# Altium integrated library Renesas Transistor.IntLib: 835 symbols (part 7 of 18)
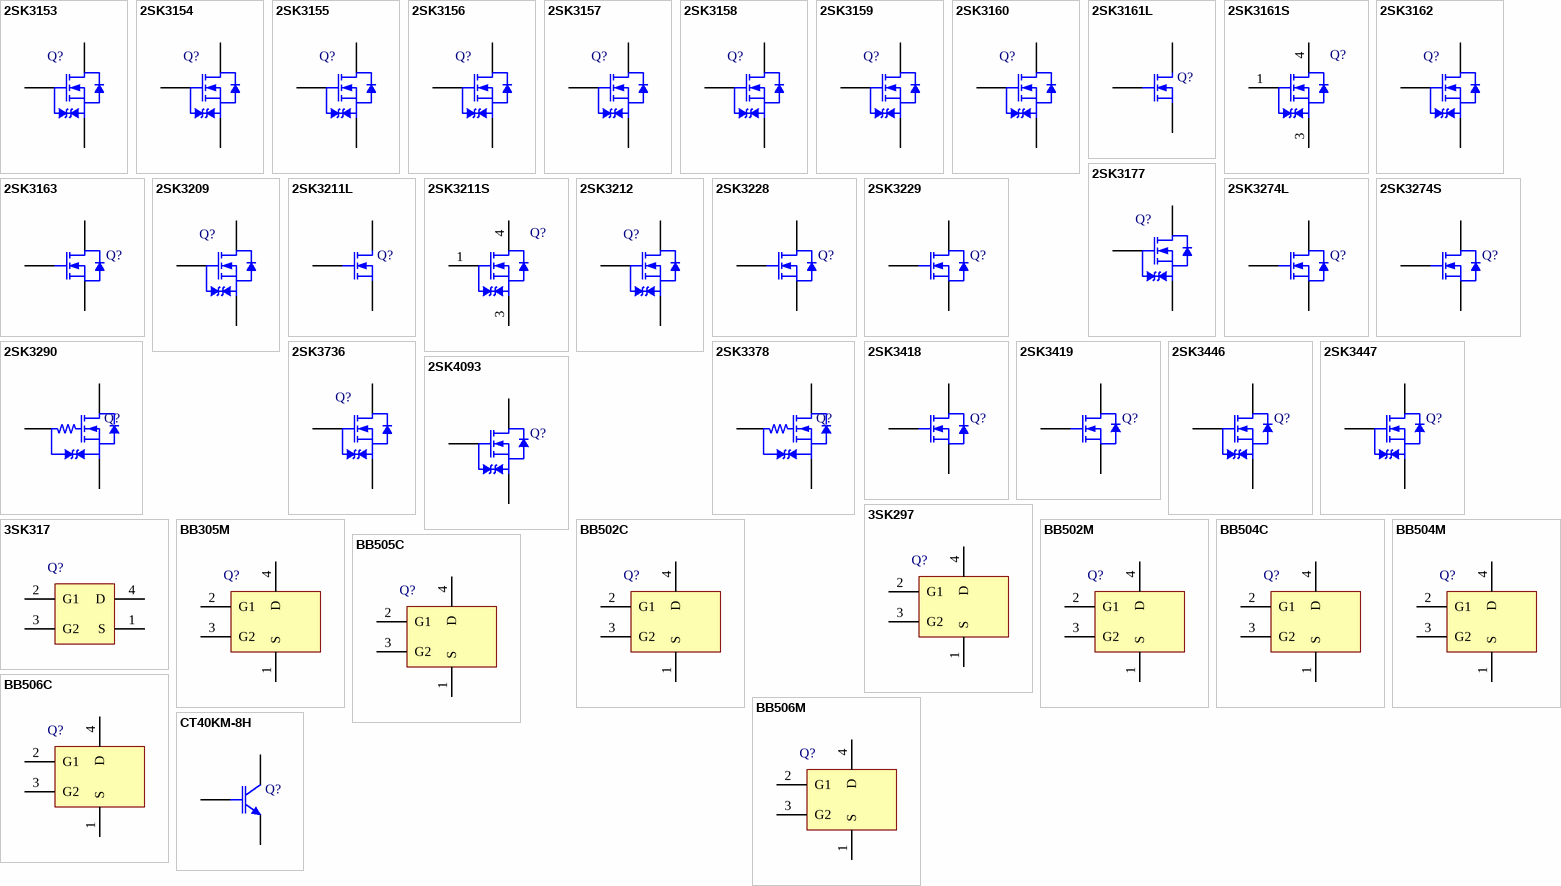
[diagram p28: symbols 2SK3153 to CT40KM-8H]

## 2SK3418
designator Q?
Silicon N-Channel MOSFET, High Speed Power Switching; Published: 30-Oct-2009; DatasheetVersion: Rev.2.00, Sep-2004; PackageVersion: Sep-2005; PackageReference: PRSS0004AC-A; Publisher: Altium Limited; PackageDescription: TO, Thru-Hole, Vertical, Heatsink Mounted; 3 In-Line Leads; Pitch 2.54 mm (TO-220AB); Code_JEITA: SC-46; ComponentLink1Description: Manufacturer Link; ComponentLink1URL: http://sg.renesas.com/fmwk.jsp?cnt=discrete_category_landing.jsp&fp=/products/discrete/; ComponentLink2Description: Datasheet; ComponentLink2URL: http://documentation.renesas.com/eng/products/transistor/rej03g0407_2sk3418.pdf; ComponentLink3Description: Packaging Specification; ComponentLink3URL: http://sg.renesas.com/media/products/common_info/package/pdf/transistor/code/prss0004ac_a.pdf
footprint PRSS0004AC-A (TO, Thru-Hole, Vertical, Heatsink Mounted; 3 In-Line Leads; Pitch 2.54 mm)
pins: 1 G, 2 D, 3 S

## 2SK3419
designator Q?
Silicon N-Channel MOSFET, High Speed Power Switching; Published: 30-Oct-2009; DatasheetVersion: Rev.2.00, Sep-2005; PackageVersion: Sep-2005; PackageReference: PRSS0004ZE-A; Publisher: Altium Limited; PackageDescription: TO, Thru-Hole, Vertical, Heatsink Mounted; 3 In-Line Leads; Pitch 5.45 mm (TO-3P); Code_JEITA: SC-65; ComponentLink1Description: Manufacturer Link; ComponentLink1URL: http://sg.renesas.com/fmwk.jsp?cnt=discrete_category_landing.jsp&fp=/products/discrete/; ComponentLink2Description: Datasheet; ComponentLink2URL: http://documentation.renesas.com/eng/products/transistor/rej03g1099_2sk3419ds.pdf; ComponentLink3Description: Packaging Specification; ComponentLink3URL: http://sg.renesas.com/media/products/common_info/package/pdf/transistor/code/prss0004ze_a.pdf
footprint PRSS0004ZE-A (TO, Thru-Hole, Vertical, Heatsink Mounted; 3 In-Line Leads; Pitch 5.45 mm)
pins: 1 S, 2 D, 3 G

## 2SK3446
designator Q?
Silicon N-Channel MOSFET, Power Switching; Published: 30-Oct-2009; DatasheetVersion: Rev.8.00, Sep-2005; PackageVersion: Jan-2005; PackageReference: PRSS0003DC-A; Publisher: Altium Limited; PackageDescription: TO, Flat Index; 3 In-Line, Axial Leads; Body Dia. 4.8mm; Leads 0.55 x 0.5 mm (max); Code_JEITA: SC-51; ComponentLink1Description: Manufacturer Link; ComponentLink1URL: http://sg.renesas.com/fmwk.jsp?cnt=discrete_category_landing.jsp&fp=/products/discrete/; ComponentLink2Description: Datasheet; ComponentLink2URL: http://documentation.renesas.com/eng/products/transistor/rej03g1100_2sk3446ds.pdf; ComponentLink3Description: Packaging Specification; ComponentLink3URL: http://sg.renesas.com/media/products/common_info/package/pdf/transistor/code/prss0003dc_a.pdf
footprint PRSS0003DC-A (TO, Flat Index; 3 In-Line, Axial Leads; Body Dia. 4.8mm; Leads 0.55 x 0.5 mm (max))
pins: 1 S, 2 D, 3 G

## 2SK3447
designator Q?
Silicon N-Channel MOSFET, Power Switching; Published: 30-Oct-2009; DatasheetVersion: Rev.7.00, Sep-2005; PackageVersion: Jan-2005; PackageReference: PRSS0003DC-A; Publisher: Altium Limited; PackageDescription: TO, Flat Index; 3 In-Line, Axial Leads; Body Dia. 4.8mm; Leads 0.55 x 0.5 mm (max); Code_JEITA: SC-51; ComponentLink1Description: Manufacturer Link; ComponentLink1URL: http://sg.renesas.com/fmwk.jsp?cnt=discrete_category_landing.jsp&fp=/products/discrete/; ComponentLink2Description: Datasheet; ComponentLink2URL: http://documentation.renesas.com/eng/products/transistor/rej03g1101_2sk3447ds.pdf; ComponentLink3Description: Packaging Specification; ComponentLink3URL: http://sg.renesas.com/media/products/common_info/package/pdf/transistor/code/prss0003dc_a.pdf
footprint PRSS0003DC-A (TO, Flat Index; 3 In-Line, Axial Leads; Body Dia. 4.8mm; Leads 0.55 x 0.5 mm (max))
pins: 1 S, 2 D, 3 G

## 2SK3736
designator Q?
Silicon N-Channel MOSFET, High Speed Power Switching; Published: 30-Oct-2009; DatasheetVersion: Rev.2.00, Jul-2006; PackageVersion: Sep-2005; PackageReference: PRSS0004AC-A; Publisher: Altium Limited; PackageDescription: TO, Thru-Hole, Vertical, Heatsink Mounted; 3 In-Line Leads; Pitch 2.54 mm (TO-220AB); Code_JEITA: SC-46; ComponentLink1Description: Manufacturer Link; ComponentLink1URL: http://sg.renesas.com/fmwk.jsp?cnt=discrete_category_landing.jsp&fp=/products/discrete/; ComponentLink2Description: Datasheet; ComponentLink2URL: http://documentation.renesas.com/eng/products/transistor/rej03g0525_2sk3736ds.pdf; ComponentLink3Description: Packaging Specification; ComponentLink3URL: http://sg.renesas.com/media/products/common_info/package/pdf/transistor/code/prss0004ac_a.pdf
footprint PRSS0004AC-A (TO, Thru-Hole, Vertical, Heatsink Mounted; 3 In-Line Leads; Pitch 2.54 mm)
pins: 1 G, 2 D, 3 S

## 2SK4093
designator Q?
Silicon N-Channel MOSFET, High Speed Power Switching; Published: 30-Oct-2009; DatasheetVersion: Rev.3.00, Feb-2008; PackageVersion: Jan-2005; PackageReference: PRSS0003DC-A; Publisher: Altium Limited; PackageDescription: TO, Flat Index; 3 In-Line, Axial Leads; Body Dia. 4.8mm; Leads 0.55 x 0.5 mm (max); Code_JEITA: SC-51; ComponentLink1Description: Manufacturer Link; ComponentLink1URL: http://sg.renesas.com/fmwk.jsp?cnt=discrete_category_landing.jsp&fp=/products/discrete/; ComponentLink2Description: Datasheet; ComponentLink2URL: http://documentation.renesas.com/eng/products/transistor/rej03g1534_2sk4093ds.pdf; ComponentLink3Description: Packaging Specification; ComponentLink3URL: http://sg.renesas.com/media/products/common_info/package/pdf/transistor/code/prss0003dc_a.pdf
footprint PRSS0003DC-A (TO, Flat Index; 3 In-Line, Axial Leads; Body Dia. 4.8mm; Leads 0.55 x 0.5 mm (max))
pins: 1 S, 2 D, 3 G

## 3SK297
designator Q?
Silicon N-Channel Dual Gate MOSFET; Published: 30-Oct-2009; DatasheetVersion: Rev.3.00, Aug-2005; PackageVersion: Jul-2006; PackageReference: PLSP0004ZA-A; Publisher: Altium Limited; PackageDescription: 4-Pin SOT-143 Package 1.9 mm Pitch, 2.6 mm Lead Span (MPAK-4); Code_JEITA: SC-61AA; ComponentLink1Description: Manufacturer Link; ComponentLink1URL: http://sg.renesas.com/fmwk.jsp?cnt=discrete_category_landing.jsp&fp=/products/discrete/; ComponentLink2Description: Datasheet; ComponentLink2URL: http://documentation.renesas.com/eng/products/transistor/rej03g0816_3sk297ds.pdf; ComponentLink3Description: Packaging Specification; ComponentLink3URL: http://sg.renesas.com/media/products/common_info/package/pdf/transistor/code/plsp0004za_a.pdf
footprint PLSP0004ZA-A_N (SOT143, 4-Leads, Body 2.9x1.5mm, Pitch 1.9mm, Lead Span 2.6mm, IPC Medium Density)
footprint PLSP0004ZA-A_L (SOT143, 4-Leads, Body 2.9x1.5mm, Pitch 1.9mm, Lead Span 2.6mm, IPC High Density)
footprint PLSP0004ZA-A_M (SOT143, 4-Leads, Body 2.9x1.5mm, Pitch 1.9mm, Lead Span 2.6mm, IPC Low Density)
pins: 1 S, 2 G1, 3 G2, 4 D

## 3SK317
designator Q?
Silicon N-Channel Dual Gate MOS FET, UHF / VHF RF Amplifier; DatasheetVersion: Rev.2.00, Aug-2005; PackageVersion: Nov-2007; PackageReference: PTSP0004ZA-A; Publisher: Altium Limited; PackageDescription: 4-Pin Plastic SOT-343 Package 1.3 mm Pitch, 2.1 mm Lead Span (CMPAK-4); Code_JEITA: SC-82AB; ComponentLink1Description: Manufacturer Link; ComponentLink1URL: http://sg.renesas.com/fmwk.jsp?cnt=discrete_category_landing.jsp&fp=/products/discrete/; ComponentLink2Description: Datasheet; ComponentLink2URL: http://documentation.renesas.com/eng/products/transistor/rej03g1247_3sk317ds.pdf; ComponentLink3Description: Packaging Specification; ComponentLink3URL: http://sg.renesas.com/media/products/common_info/package/pdf/transistor/code/ptsp0004za_a.pdf
footprint PTSP0004ZA-A_N (SOT343, 4-Leads, Body 2x1.25 mm, Pitch 1.3mm, Lead Span 2.1mm, IPC Medium Density)
footprint PTSP0004ZA-A_L (SOT343, 4-Leads, Body 2x1.25 mm, Pitch 1.3mm, Lead Span 2.1mm, IPC High Density)
footprint PTSP0004ZA-A_M (SOT343, 4-Leads, Body 2x1.25 mm, Pitch 1.3mm, Lead Span 2.1mm, IPC Low Density)
pins: 1 S, 2 G1, 3 G2, 4 D

## BB305M
designator Q?
Built in Biasing Circuit MOSFET IC, UHF/VHF RF Amplifier; Published: 30-Oct-2009; DatasheetVersion: Rev.6.00, Aug-2005; PackageVersion: Jul-2006; PackageReference: PLSP0004ZA-A; Publisher: Altium Limited; PackageDescription: 4-Pin SOT-143 Package 1.9 mm Pitch, 2.6 mm Lead Span (MPAK-4); Code_JEITA: SC-61AA; ComponentLink1Description: Manufacturer Link; ComponentLink1URL: http://sg.renesas.com/fmwk.jsp?cnt=discrete_category_landing.jsp&fp=/products/discrete/; ComponentLink2Description: Datasheet; ComponentLink2URL: http://documentation.renesas.com/eng/products/transistor/rej03g0829_bb305mds.pdf; ComponentLink3Description: Packaging Specification; ComponentLink3URL: http://sg.renesas.com/media/products/common_info/package/pdf/transistor/code/plsp0004za_a.pdf
footprint PLSP0004ZA-A_N (SOT143, 4-Leads, Body 2.9x1.5mm, Pitch 1.9mm, Lead Span 2.6mm, IPC Medium Density)
footprint PLSP0004ZA-A_L (SOT143, 4-Leads, Body 2.9x1.5mm, Pitch 1.9mm, Lead Span 2.6mm, IPC High Density)
footprint PLSP0004ZA-A_M (SOT143, 4-Leads, Body 2.9x1.5mm, Pitch 1.9mm, Lead Span 2.6mm, IPC Low Density)
pins: 1 S, 2 G1, 3 G2, 4 D

## BB502C
designator Q?
Built in Biasing Circuit MOSFET IC, UHF RF Amplifier; Published: 30-Oct-2009; DatasheetVersion: Rev.6.00, Apr-2006; PackageVersion: Nov-2007; PackageReference: PTSP0004ZA-A; Publisher: Altium Limited; PackageDescription: 4-Pin Plastic SOT-343 Package 1.3 mm Pitch, 2.1 mm Lead Span (CMPAK-4); Code_JEITA: SC-82AB; ComponentLink1Description: Manufacturer Link; ComponentLink1URL: http://sg.renesas.com/fmwk.jsp?cnt=discrete_category_landing.jsp&fp=/products/discrete/; ComponentLink2Description: Datasheet; ComponentLink2URL: http://documentation.renesas.com/eng/products/transistor/rej03g0832_bb502cds.pdf; ComponentLink3Description: Packaging Specification; ComponentLink3URL: http://sg.renesas.com/media/products/common_info/package/pdf/transistor/code/ptsp0004za_a.pdf
footprint PTSP0004ZA-A_N (SOT343, 4-Leads, Body 2x1.25 mm, Pitch 1.3mm, Lead Span 2.1mm, IPC Medium Density)
footprint PTSP0004ZA-A_L (SOT343, 4-Leads, Body 2x1.25 mm, Pitch 1.3mm, Lead Span 2.1mm, IPC High Density)
footprint PTSP0004ZA-A_M (SOT343, 4-Leads, Body 2x1.25 mm, Pitch 1.3mm, Lead Span 2.1mm, IPC Low Density)
pins: 1 S, 2 G1, 3 G2, 4 D

## BB502M
designator Q?
Built in Biasing Circuit MOSFET IC, UHF RF Amplifier; Published: 30-Oct-2009; DatasheetVersion: Rev.5.00, Aug-2005; PackageVersion: Jul-2006; PackageReference: PLSP0004ZA-A; Publisher: Altium Limited; PackageDescription: 4-Pin SOT-143 Package 1.9 mm Pitch, 2.6 mm Lead Span (MPAK-4); Code_JEITA: SC-61AA; ComponentLink1Description: Manufacturer Link; ComponentLink1URL: http://sg.renesas.com/fmwk.jsp?cnt=discrete_category_landing.jsp&fp=/products/discrete/; ComponentLink2Description: Datasheet; ComponentLink2URL: http://documentation.renesas.com/eng/products/transistor/rej03g0833_bb502mds.pdf; ComponentLink3Description: Packaging Specification; ComponentLink3URL: http://sg.renesas.com/media/products/common_info/package/pdf/transistor/code/plsp0004za_a.pdf
footprint PLSP0004ZA-A_N (SOT143, 4-Leads, Body 2.9x1.5mm, Pitch 1.9mm, Lead Span 2.6mm, IPC Medium Density)
footprint PLSP0004ZA-A_L (SOT143, 4-Leads, Body 2.9x1.5mm, Pitch 1.9mm, Lead Span 2.6mm, IPC High Density)
footprint PLSP0004ZA-A_M (SOT143, 4-Leads, Body 2.9x1.5mm, Pitch 1.9mm, Lead Span 2.6mm, IPC Low Density)
pins: 1 S, 2 G1, 3 G2, 4 D

## BB504C
designator Q?
Built in Biasing Circuit MOSFET IC, VHF&UHF RF Amplifier; Published: 30-Oct-2009; DatasheetVersion: Rev.6.00, Aug-2005; PackageVersion: Nov-2007; PackageReference: PTSP0004ZA-A; Publisher: Altium Limited; PackageDescription: 4-Pin Plastic SOT-343 Package 1.3 mm Pitch, 2.1 mm Lead Span (CMPAK-4); Code_JEITA: SC-82AB; ComponentLink1Description: Manufacturer Link; ComponentLink1URL: http://sg.renesas.com/fmwk.jsp?cnt=discrete_category_landing.jsp&fp=/products/discrete/; ComponentLink2Description: Datasheet; ComponentLink2URL: http://documentation.renesas.com/eng/products/transistor/rej03g0836_bb504cds.pdf; ComponentLink3Description: Packaging Specification; ComponentLink3URL: http://sg.renesas.com/media/products/common_info/package/pdf/transistor/code/ptsp0004za_a.pdf
footprint PTSP0004ZA-A_N (SOT343, 4-Leads, Body 2x1.25 mm, Pitch 1.3mm, Lead Span 2.1mm, IPC Medium Density)
footprint PTSP0004ZA-A_L (SOT343, 4-Leads, Body 2x1.25 mm, Pitch 1.3mm, Lead Span 2.1mm, IPC High Density)
footprint PTSP0004ZA-A_M (SOT343, 4-Leads, Body 2x1.25 mm, Pitch 1.3mm, Lead Span 2.1mm, IPC Low Density)
pins: 1 S, 2 G1, 3 G2, 4 D

## BB504M
designator Q?
Built in Biasing Circuit MOSFET IC, VHF&UHF RF Amplifier; Published: 30-Oct-2009; DatasheetVersion: Rev.7.00, Aug-2005; PackageVersion: Jul-2006; PackageReference: PLSP0004ZA-A; Publisher: Altium Limited; PackageDescription: 4-Pin SOT-143 Package 1.9 mm Pitch, 2.6 mm Lead Span (MPAK-4); Code_JEITA: SC-61AA; ComponentLink1Description: Manufacturer Link; ComponentLink1URL: http://sg.renesas.com/fmwk.jsp?cnt=discrete_category_landing.jsp&fp=/products/discrete/; ComponentLink2Description: Datasheet; ComponentLink2URL: http://documentation.renesas.com/eng/products/transistor/rej03g0837_bb504mds.pdf; ComponentLink3Description: Packaging Specification; ComponentLink3URL: http://sg.renesas.com/media/products/common_info/package/pdf/transistor/code/plsp0004za_a.pdf
footprint PLSP0004ZA-A_N (SOT143, 4-Leads, Body 2.9x1.5mm, Pitch 1.9mm, Lead Span 2.6mm, IPC Medium Density)
footprint PLSP0004ZA-A_L (SOT143, 4-Leads, Body 2.9x1.5mm, Pitch 1.9mm, Lead Span 2.6mm, IPC High Density)
footprint PLSP0004ZA-A_M (SOT143, 4-Leads, Body 2.9x1.5mm, Pitch 1.9mm, Lead Span 2.6mm, IPC Low Density)
pins: 1 S, 2 G1, 3 G2, 4 D

## BB505C
designator Q?
Build in Biasing Circuit MOSFET IC, UHF RF Amplifier; Published: 30-Oct-2009; DatasheetVersion: Rev.1.00, Jun-2004; PackageVersion: Nov-2007; PackageReference: PTSP0004ZA-A; Publisher: Altium Limited; PackageDescription: 4-Pin Plastic SOT-343 Package 1.3 mm Pitch, 2.1 mm Lead Span (CMPAK-4); Code_JEITA: SC-82AB; ComponentLink1Description: Manufacturer Link; ComponentLink1URL: http://sg.renesas.com/fmwk.jsp?cnt=discrete_category_landing.jsp&fp=/products/discrete/; ComponentLink2Description: Datasheet; ComponentLink2URL: http://documentation.renesas.com/eng/products/transistor/rej03g0364_bb505c.pdf; ComponentLink3Description: Packaging Specification; ComponentLink3URL: http://sg.renesas.com/media/products/common_info/package/pdf/transistor/code/ptsp0004za_a.pdf
footprint PTSP0004ZA-A_N (SOT343, 4-Leads, Body 2x1.25 mm, Pitch 1.3mm, Lead Span 2.1mm, IPC Medium Density)
footprint PTSP0004ZA-A_L (SOT343, 4-Leads, Body 2x1.25 mm, Pitch 1.3mm, Lead Span 2.1mm, IPC High Density)
footprint PTSP0004ZA-A_M (SOT343, 4-Leads, Body 2x1.25 mm, Pitch 1.3mm, Lead Span 2.1mm, IPC Low Density)
pins: 1 S, 2 G1, 3 G2, 4 D

## BB506C
designator Q?
Built in Biasing Circuit MOSFET IC, UHF RF Amplifier; Published: 30-Oct-2009; DatasheetVersion: Rev.1.00, Jun-2005; PackageVersion: Nov-2007; PackageReference: PTSP0004ZA-A; Publisher: Altium Limited; PackageDescription: 4-Pin Plastic SOT-343 Package 1.3 mm Pitch, 2.1 mm Lead Span (CMPAK-4); Code_JEITA: SC-82AB; ComponentLink1Description: Manufacturer Link; ComponentLink1URL: http://sg.renesas.com/fmwk.jsp?cnt=discrete_category_landing.jsp&fp=/products/discrete/; ComponentLink2Description: Datasheet; ComponentLink2URL: http://documentation.renesas.com/eng/products/transistor/rej03g1246_bb506c.pdf; ComponentLink3Description: Packaging Specification; ComponentLink3URL: http://sg.renesas.com/media/products/common_info/package/pdf/transistor/code/ptsp0004za_a.pdf
footprint PTSP0004ZA-A_N (SOT343, 4-Leads, Body 2x1.25 mm, Pitch 1.3mm, Lead Span 2.1mm, IPC Medium Density)
footprint PTSP0004ZA-A_L (SOT343, 4-Leads, Body 2x1.25 mm, Pitch 1.3mm, Lead Span 2.1mm, IPC High Density)
footprint PTSP0004ZA-A_M (SOT343, 4-Leads, Body 2x1.25 mm, Pitch 1.3mm, Lead Span 2.1mm, IPC Low Density)
pins: 1 S, 2 G1, 3 G2, 4 D

## BB506M
designator Q?
Built in Biasing Circuit MOSFET IC, UHF RF Amplifier; Published: 30-Oct-2009; DatasheetVersion: Rev.1.00, Nov-2007; PackageVersion: Jul-2006; PackageReference: PLSP0004ZA-A; Publisher: Altium Limited; PackageDescription: 4-Pin SOT-143 Package 1.9 mm Pitch, 2.6 mm Lead Span (MPAK-4); Code_JEITA: SC-61AA; ComponentLink1Description: Manufacturer Link; ComponentLink1URL: http://sg.renesas.com/fmwk.jsp?cnt=discrete_category_landing.jsp&fp=/products/discrete/; ComponentLink2Description: Datasheet; ComponentLink2URL: http://documentation.renesas.com/eng/products/transistor/rej03g1604_bb506mds.pdf; ComponentLink3Description: Packaging Specification; ComponentLink3URL: http://sg.renesas.com/media/products/common_info/package/pdf/transistor/code/plsp0004za_a.pdf
footprint PLSP0004ZA-A_N (SOT143, 4-Leads, Body 2.9x1.5mm, Pitch 1.9mm, Lead Span 2.6mm, IPC Medium Density)
footprint PLSP0004ZA-A_L (SOT143, 4-Leads, Body 2.9x1.5mm, Pitch 1.9mm, Lead Span 2.6mm, IPC High Density)
footprint PLSP0004ZA-A_M (SOT143, 4-Leads, Body 2.9x1.5mm, Pitch 1.9mm, Lead Span 2.6mm, IPC Low Density)
pins: 1 S, 2 G1, 3 G2, 4 D

## CT40KM-8H
designator Q?
Nch IGBT for Strobe Flasher; Published: 30-Oct-2009; DatasheetVersion: Rev.2.00, Jul-2005; PackageVersion: Sep-2005; PackageReference: PRSS0003AB-A; Publisher: Altium Limited; PackageDescription: TO, Thru-Hole, Vertical, Heatsink Mounted; 3 In-Line Leads; Pitch 2.54 mm (TO-220FN); ComponentLink1Description: Manufacturer Link; ComponentLink1URL: http://sg.renesas.com/fmwk.jsp?cnt=discrete_category_landing.jsp&fp=/products/discrete/; ComponentLink2Description: Datasheet; ComponentLink2URL: http://documentation.renesas.com/eng/products/transistor/rej03g0286_ct40km8h.pdf; ComponentLink3Description: Packaging Specification; ComponentLink3URL: http://sg.renesas.com/media/products/common_info/package/pdf/transistor/code/prss0003ab_a.pdf
footprint PRSS0003AB-A (TO, Thru-Hole, Vertical, Heatsink Mounted; 3 In-Line Leads; Pitch 2.54 mm)
pins: 1 G, 2 C, 3 E

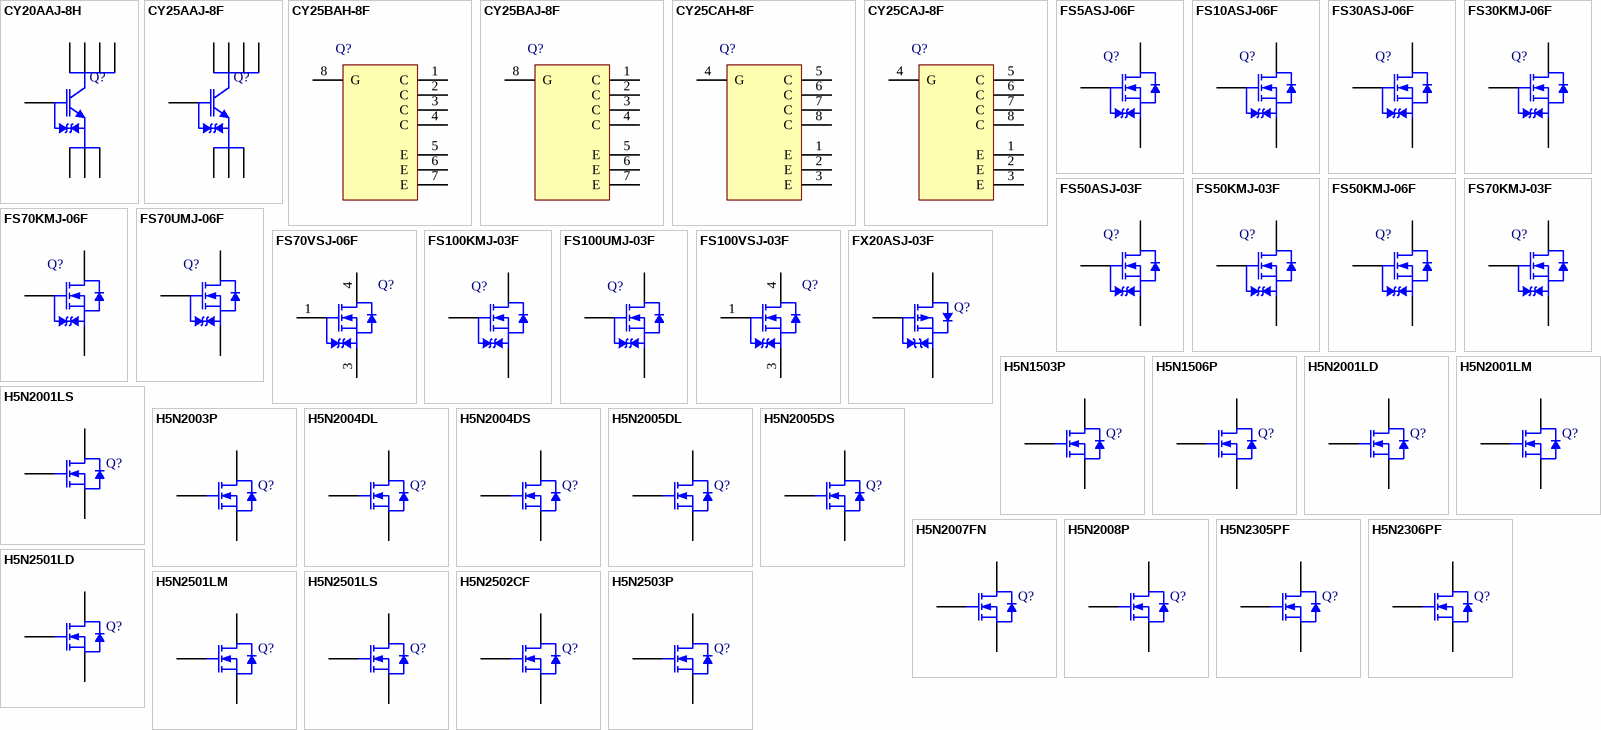
[diagram p8: symbols CY20AAJ-8H to H5N2503P]

## CY20AAJ-8H
designator Q?
Nch IGBT for Strobe Flasher; Published: 30-Oct-2009; DatasheetVersion: Rev.2.00, Nov-2005; PackageVersion: Sep-2005; PackageReference: PRSP0008DD-D; Publisher: Altium Limited; PackageDescription: 8-Pin Plastic Small Outline Integrated Circuit 1.27 mm Pitch (SOP-8); Code_IPC: SOIC127P600-8; ComponentLink1Description: Manufacturer Link; ComponentLink1URL: http://sg.renesas.com/fmwk.jsp?cnt=discrete_category_landing.jsp&fp=/products/discrete/; ComponentLink2Description: Datasheet; ComponentLink2URL: http://documentation.renesas.com/eng/products/transistor/rej03g0282_cy20aaj8h.pdf; ComponentLink3Description: Packaging Specification; ComponentLink3URL: http://sg.renesas.com/media/products/common_info/package/pdf/transistor/code/prsp0008dd_d.pdf
footprint PRSP0008DD-D_N (SOIC, 8-Leads, Body 4.9x3.95mm, Pitch 1.27mm, IPC Medium Density)
footprint PRSP0008DD-D_L (SOIC, 8-Leads, Body 4.9x3.95mm, Pitch 1.27mm, IPC High Density)
footprint PRSP0008DD-D_M (SOIC, 8-Leads, Body 4.9x3.95mm, Pitch 1.27mm, IPC Low Density)
pins: 1 E, 2 E, 3 E, 4 G, 5 C, 6 C, 7 C, 8 C

## CY25AAJ-8F
designator Q?
Nch IGBT for Strobe Flasher; Published: 30-Oct-2009; DatasheetVersion: Rev.1.00, Aug-2004; PackageVersion: Sep-2005; PackageReference: PRSP0008DD-D; Publisher: Altium Limited; PackageDescription: 8-Pin Plastic Small Outline Integrated Circuit 1.27 mm Pitch (SOP-8); Code_IPC: SOIC127P600-8; ComponentLink1Description: Manufacturer Link; ComponentLink1URL: http://sg.renesas.com/fmwk.jsp?cnt=discrete_category_landing.jsp&fp=/products/discrete/; ComponentLink2Description: Datasheet; ComponentLink2URL: http://documentation.renesas.com/eng/products/transistor/rej03g0283_cy25aaj8f.pdf; ComponentLink3Description: Packaging Specification; ComponentLink3URL: http://sg.renesas.com/media/products/common_info/package/pdf/transistor/code/prsp0008dd_d.pdf
footprint PRSP0008DD-D_N (SOIC, 8-Leads, Body 4.9x3.95mm, Pitch 1.27mm, IPC Medium Density)
footprint PRSP0008DD-D_L (SOIC, 8-Leads, Body 4.9x3.95mm, Pitch 1.27mm, IPC High Density)
footprint PRSP0008DD-D_M (SOIC, 8-Leads, Body 4.9x3.95mm, Pitch 1.27mm, IPC Low Density)
pins: 1 E, 2 E, 3 E, 4 G, 5 C, 6 C, 7 C, 8 C

## CY25BAH-8F
designator Q?
Nch IGBT for Strobe Flash; Published: 30-Oct-2009; DatasheetVersion: Rev.3.00, Nov-2005; PackageVersion: Sep-2007; PackageReference: PTSP0008JB-B; Publisher: Altium Limited; PackageDescription: 8-Pin Plastic Thin Small Outline Package 0.65 mm Pitch (TSSOP-8); Code_JEITA: P-TSSOP8-4.4×3-0.65; ComponentLink1Description: Manufacturer Link; ComponentLink1URL: http://sg.renesas.com/fmwk.jsp?cnt=discrete_category_landing.jsp&fp=/products/discrete/; ComponentLink2Description: Datasheet; ComponentLink2URL: http://documentation.renesas.com/eng/products/transistor/rej03g0284_cy25bah8f.pdf; ComponentLink3Description: Packaging Specification; ComponentLink3URL: http://sg.renesas.com/media/products/common_info/package/pdf/transistor/code/ptsp0008jb_b.pdf
footprint PTSP0008JB-B_N (TSOP, 8-Leads, Body 3x4.4mm, Pitch 0.65mm, IPC Medium Density)
footprint PTSP0008JB-B_L (TSOP, 8-Leads, Body 3x4.4mm, Pitch 0.65mm, IPC High Density)
footprint PTSP0008JB-B_M (TSOP, 8-Leads, Body 3x4.4mm, Pitch 0.65mm, IPC Low Density)
pins: 1 C, 2 C, 3 C, 4 C, 5 E, 6 E, 7 E, 8 G

## CY25BAJ-8F
designator Q?
Nch IGBT for Strobe Flash; Published: 30-Oct-2009; DatasheetVersion: Rev.2.00, May-2005; PackageVersion: Sep-2007; PackageReference: PTSP0008JB-B; Publisher: Altium Limited; PackageDescription: 8-Pin Plastic Thin Small Outline Package 0.65 mm Pitch (TSSOP-8); Supplier 1: Digi-Key; Supplier Part Number 1: CY25BAJ-8F-ND; Code_JEITA: P-TSSOP8-4.4×3-0.65; ComponentLink1Description: Manufacturer Link; ComponentLink1URL: http://sg.renesas.com/fmwk.jsp?cnt=discrete_category_landing.jsp&fp=/products/discrete/; ComponentLink2Description: Datasheet; ComponentLink2URL: http://documentation.renesas.com/eng/products/transistor/rej03g0285_cy25baj8f.pdf; ComponentLink3Description: Packaging Specification; ComponentLink3URL: http://sg.renesas.com/media/products/common_info/package/pdf/transistor/code/ptsp0008jb_b.pdf
footprint PTSP0008JB-B_N (TSOP, 8-Leads, Body 3x4.4mm, Pitch 0.65mm, IPC Medium Density)
footprint PTSP0008JB-B_L (TSOP, 8-Leads, Body 3x4.4mm, Pitch 0.65mm, IPC High Density)
footprint PTSP0008JB-B_M (TSOP, 8-Leads, Body 3x4.4mm, Pitch 0.65mm, IPC Low Density)
pins: 1 C, 2 C, 3 C, 4 C, 5 E, 6 E, 7 E, 8 G

## CY25CAH-8F
designator Q?
Nch IGBT for Strobe Flash; Published: 30-Oct-2009; DatasheetVersion: Rev.2.00, May-2005; PackageVersion: Jul-2006; PackageReference: PVSN0008JA-A; Publisher: Altium Limited; PackageDescription: 8-Pin Plastic Dual Lead-Flat Package 0.65 mm Pitch (VSON-8); Code_JEITA: P-VSON8-3x4.4-0.65; ComponentLink1Description: Manufacturer Link; ComponentLink1URL: http://sg.renesas.com/fmwk.jsp?cnt=discrete_category_landing.jsp&fp=/products/discrete/; ComponentLink2Description: Datasheet; ComponentLink2URL: http://documentation.renesas.com/eng/products/transistor/rej03g1201_cy25cah8f.pdf; ComponentLink3Description: Packaging Specification; ComponentLink3URL: http://sg.renesas.com/media/products/common_info/package/pdf/transistor/code/pvsn0008ja_a.pdf
footprint PVSN0008JA-A (SOP, 8-Flat Leads, Body 3x4.4x0.9mm, Pitch 0.65mm)
pins: 1 E, 2 E, 3 E, 4 G, 5 C, 6 C, 7 C, 8 C

## CY25CAJ-8F
designator Q?
Nch IGBT for Strobe Flash; Published: 30-Oct-2009; DatasheetVersion: Rev.2.00, May-2005; PackageVersion: Jul-2006; PackageReference: PVSN0008JA-A; Publisher: Altium Limited; PackageDescription: 8-Pin Plastic Dual Lead-Flat Package 0.65 mm Pitch (VSON-8); Code_JEITA: P-VSON8-3x4.4-0.65; ComponentLink1Description: Manufacturer Link; ComponentLink1URL: http://sg.renesas.com/fmwk.jsp?cnt=discrete_category_landing.jsp&fp=/products/discrete/; ComponentLink2Description: Datasheet; ComponentLink2URL: http://documentation.renesas.com/eng/products/transistor/rej03g1202_cy25caj8f.pdf; ComponentLink3Description: Packaging Specification; ComponentLink3URL: http://sg.renesas.com/media/products/common_info/package/pdf/transistor/code/pvsn0008ja_a.pdf
footprint PVSN0008JA-A (SOP, 8-Flat Leads, Body 3x4.4x0.9mm, Pitch 0.65mm)
pins: 1 E, 2 E, 3 E, 4 G, 5 C, 6 C, 7 C, 8 C

## FS5ASJ-06F
designator Q?
N-Channel Power MOSFET, High-Speed Switching; Published: 30-Oct-2009; DatasheetVersion: Rev.2.00, Dec-2008; PackageVersion: Dec-2008; PackageReference: PRSS0004ZG-A; Publisher: Altium Limited; PackageDescription: 3-Pin Plastic Transistor Outline Package, 6.1 x 6.6 mm Body (MP-3A); Code_JEITA: SC-63; ComponentLink1Description: Manufacturer Link; ComponentLink1URL: http://sg.renesas.com/fmwk.jsp?cnt=discrete_category_landing.jsp&fp=/products/discrete/; ComponentLink2Description: Datasheet; ComponentLink2URL: http://documentation.renesas.com/eng/products/transistor/rej03g0239_fs5asj06f.pdf; ComponentLink3Description: Packaging Specification; ComponentLink3URL: http://sg.renesas.com/media/products/common_info/package/pdf/transistor/code/prss0004zg_a.pdf
footprint PRSS0004ZG-A_N (D-PAK, 4-Leads, Body 6.1x6.6mm, Pitch 2.28mm, Lead Span 9.9mm, IPC Medium Density)
footprint PRSS0004ZG-A_L (D-PAK, 4-Leads, Body 6.1x6.6mm, Pitch 2.28mm, Lead Span 9.9mm, IPC High Density)
footprint PRSS0004ZG-A_M (D-PAK, 4-Leads, Body 6.1x6.6mm, Pitch 2.28mm, Lead Span 9.9mm, IPC Low Density)
pins: 1 G, 3 S, 4 D

## FS10ASJ-06F
designator Q?
N-Channel Power MOSFET, High-Speed Switching; Published: 30-Oct-2009; DatasheetVersion: Rev.2.00, Dec-2008; PackageVersion: Dec-2008; PackageReference: PRSS0004ZG-A; Publisher: Altium Limited; PackageDescription: 3-Pin Plastic Transistor Outline Package, 6.1 x 6.6 mm Body (MP-3A); Code_JEITA: SC-63; ComponentLink1Description: Manufacturer Link; ComponentLink1URL: http://sg.renesas.com/fmwk.jsp?cnt=discrete_category_landing.jsp&fp=/products/discrete/; ComponentLink2Description: Datasheet; ComponentLink2URL: http://documentation.renesas.com/eng/products/transistor/rej03g0241_fs10asj06f.pdf; ComponentLink3Description: Packaging Specification; ComponentLink3URL: http://sg.renesas.com/media/products/common_info/package/pdf/transistor/code/prss0004zg_a.pdf
footprint PRSS0004ZG-A_N (D-PAK, 4-Leads, Body 6.1x6.6mm, Pitch 2.28mm, Lead Span 9.9mm, IPC Medium Density)
footprint PRSS0004ZG-A_L (D-PAK, 4-Leads, Body 6.1x6.6mm, Pitch 2.28mm, Lead Span 9.9mm, IPC High Density)
footprint PRSS0004ZG-A_M (D-PAK, 4-Leads, Body 6.1x6.6mm, Pitch 2.28mm, Lead Span 9.9mm, IPC Low Density)
pins: 1 G, 3 S, 4 D

## FS30ASJ-06F
designator Q?
N-Channel Power MOSFET, High-Speed Switching; Published: 30-Oct-2009; DatasheetVersion: Rev.2.00, Dec-2008; PackageVersion: Dec-2008; PackageReference: PRSS0004ZG-A; Publisher: Altium Limited; PackageDescription: 3-Pin Plastic Transistor Outline Package, 6.1 x 6.6 mm Body (MP-3A); Code_JEITA: SC-63; ComponentLink1Description: Manufacturer Link; ComponentLink1URL: http://sg.renesas.com/fmwk.jsp?cnt=discrete_category_landing.jsp&fp=/products/discrete/; ComponentLink2Description: Datasheet; ComponentLink2URL: http://documentation.renesas.com/eng/products/transistor/rej03g0242_fs30asj06f.pdf; ComponentLink3Description: Packaging Specification; ComponentLink3URL: http://sg.renesas.com/media/products/common_info/package/pdf/transistor/code/prss0004zg_a.pdf
footprint PRSS0004ZG-A_N (D-PAK, 4-Leads, Body 6.1x6.6mm, Pitch 2.28mm, Lead Span 9.9mm, IPC Medium Density)
footprint PRSS0004ZG-A_L (D-PAK, 4-Leads, Body 6.1x6.6mm, Pitch 2.28mm, Lead Span 9.9mm, IPC High Density)
footprint PRSS0004ZG-A_M (D-PAK, 4-Leads, Body 6.1x6.6mm, Pitch 2.28mm, Lead Span 9.9mm, IPC Low Density)
pins: 1 G, 3 S, 4 D

## FS30KMJ-06F
designator Q?
N-Channel Power MOSFET, High-Speed Switching; Published: 30-Oct-2009; DatasheetVersion: Rev.1.00, Aug-2004; PackageVersion: Sep-2005; PackageReference: PRSS0003AB-A; Publisher: Altium Limited; PackageDescription: TO, Thru-Hole, Vertical, Heatsink Mounted; 3 In-Line Leads; Pitch 2.54 mm (TO-220FN); ComponentLink1Description: Manufacturer Link; ComponentLink1URL: http://sg.renesas.com/fmwk.jsp?cnt=discrete_category_landing.jsp&fp=/products/discrete/; ComponentLink2Description: Datasheet; ComponentLink2URL: http://documentation.renesas.com/eng/products/transistor/rej03g0254_fs30kmj06f.pdf; ComponentLink3Description: Packaging Specification; ComponentLink3URL: http://sg.renesas.com/media/products/common_info/package/pdf/transistor/code/prss0003ab_a.pdf
footprint PRSS0003AB-A (TO, Thru-Hole, Vertical, Heatsink Mounted; 3 In-Line Leads; Pitch 2.54 mm)
pins: 1 G, 2 D, 3 S

## FS50ASJ-03F
designator Q?
N-Channel Power MOSFET, High-Speed Switching; Published: 30-Oct-2009; DatasheetVersion: Rev.2.00, Dec-2008; PackageVersion: Dec-2008; PackageReference: PRSS0004ZG-A; Publisher: Altium Limited; PackageDescription: 3-Pin Plastic Transistor Outline Package, 6.1 x 6.6 mm Body (MP-3A); Code_JEITA: SC-63; ComponentLink1Description: Manufacturer Link; ComponentLink1URL: http://sg.renesas.com/fmwk.jsp?cnt=discrete_category_landing.jsp&fp=/products/discrete/; ComponentLink2Description: Datasheet; ComponentLink2URL: http://documentation.renesas.com/eng/products/transistor/rej03g0238_fs50asj03f.pdf; ComponentLink3Description: Packaging Specification; ComponentLink3URL: http://sg.renesas.com/media/products/common_info/package/pdf/transistor/code/prss0004zg_a.pdf
footprint PRSS0004ZG-A_N (D-PAK, 4-Leads, Body 6.1x6.6mm, Pitch 2.28mm, Lead Span 9.9mm, IPC Medium Density)
footprint PRSS0004ZG-A_L (D-PAK, 4-Leads, Body 6.1x6.6mm, Pitch 2.28mm, Lead Span 9.9mm, IPC High Density)
footprint PRSS0004ZG-A_M (D-PAK, 4-Leads, Body 6.1x6.6mm, Pitch 2.28mm, Lead Span 9.9mm, IPC Low Density)
pins: 1 G, 3 S, 4 D

## FS50KMJ-03F
designator Q?
N-Channel Power MOSFET, High-Speed Switching; Published: 30-Oct-2009; DatasheetVersion: Rev.1.00, Aug-2004; PackageVersion: Sep-2005; PackageReference: PRSS0003AB-A; Publisher: Altium Limited; PackageDescription: TO, Thru-Hole, Vertical, Heatsink Mounted; 3 In-Line Leads; Pitch 2.54 mm (TO-220FN); ComponentLink1Description: Manufacturer Link; ComponentLink1URL: http://sg.renesas.com/fmwk.jsp?cnt=discrete_category_landing.jsp&fp=/products/discrete/; ComponentLink2Description: Datasheet; ComponentLink2URL: http://documentation.renesas.com/eng/products/transistor/rej03g0251_fs50kmj03f.pdf; ComponentLink3Description: Packaging Specification; ComponentLink3URL: http://sg.renesas.com/media/products/common_info/package/pdf/transistor/code/prss0003ab_a.pdf
footprint PRSS0003AB-A (TO, Thru-Hole, Vertical, Heatsink Mounted; 3 In-Line Leads; Pitch 2.54 mm)
pins: 1 G, 2 D, 3 S

## FS50KMJ-06F
designator Q?
N-Channel Power MOSFET, High-Speed Switching; Published: 30-Oct-2009; DatasheetVersion: Rev.1.00, Aug-2004; PackageVersion: Sep-2005; PackageReference: PRSS0003AB-A; Publisher: Altium Limited; PackageDescription: TO, Thru-Hole, Vertical, Heatsink Mounted; 3 In-Line Leads; Pitch 2.54 mm (TO-220FN); ComponentLink1Description: Manufacturer Link; ComponentLink1URL: http://sg.renesas.com/fmwk.jsp?cnt=discrete_category_landing.jsp&fp=/products/discrete/; ComponentLink2Description: Datasheet; ComponentLink2URL: http://documentation.renesas.com/eng/products/transistor/rej03g0255_fs50kmj06f.pdf; ComponentLink3Description: Packaging Specification; ComponentLink3URL: http://sg.renesas.com/media/products/common_info/package/pdf/transistor/code/prss0003ab_a.pdf
footprint PRSS0003AB-A (TO, Thru-Hole, Vertical, Heatsink Mounted; 3 In-Line Leads; Pitch 2.54 mm)
pins: 1 G, 2 D, 3 S

## FS70KMJ-03F
designator Q?
N-Channel Power MOSFET, High-Speed Switching; Published: 30-Oct-2009; DatasheetVersion: Rev.1.00, Aug-2004; PackageVersion: Sep-2005; PackageReference: PRSS0003AB-A; Publisher: Altium Limited; PackageDescription: TO, Thru-Hole, Vertical, Heatsink Mounted; 3 In-Line Leads; Pitch 2.54 mm (TO-220FN); ComponentLink1Description: Manufacturer Link; ComponentLink1URL: http://sg.renesas.com/fmwk.jsp?cnt=discrete_category_landing.jsp&fp=/products/discrete/; ComponentLink2Description: Datasheet; ComponentLink2URL: http://documentation.renesas.com/eng/products/transistor/rej03g0252_fs70kmj03f.pdf; ComponentLink3Description: Packaging Specification; ComponentLink3URL: http://sg.renesas.com/media/products/common_info/package/pdf/transistor/code/prss0003ab_a.pdf
footprint PRSS0003AB-A (TO, Thru-Hole, Vertical, Heatsink Mounted; 3 In-Line Leads; Pitch 2.54 mm)
pins: 1 G, 2 D, 3 S

## FS70KMJ-06F
designator Q?
N-Channel Power MOSFET, High-Speed Switching; Published: 30-Oct-2009; DatasheetVersion: Rev.1.00, Aug-2004; PackageVersion: Sep-2005; PackageReference: PRSS0003AB-A; Publisher: Altium Limited; PackageDescription: TO, Thru-Hole, Vertical, Heatsink Mounted; 3 In-Line Leads; Pitch 2.54 mm (TO-220FN); ComponentLink1Description: Manufacturer Link; ComponentLink1URL: http://sg.renesas.com/fmwk.jsp?cnt=discrete_category_landing.jsp&fp=/products/discrete/; ComponentLink2Description: Datasheet; ComponentLink2URL: http://documentation.renesas.com/eng/products/transistor/rej03g0256_fs70kmj06f.pdf; ComponentLink3Description: Packaging Specification; ComponentLink3URL: http://sg.renesas.com/media/products/common_info/package/pdf/transistor/code/prss0003ab_a.pdf
footprint PRSS0003AB-A (TO, Thru-Hole, Vertical, Heatsink Mounted; 3 In-Line Leads; Pitch 2.54 mm)
pins: 1 G, 2 D, 3 S

## FS70UMJ-06F
designator Q?
N-Channel Power MOSFET, High-Speed Switching; Published: 30-Oct-2009; DatasheetVersion: Rev.1.00, Aug-2004; PackageVersion: Sep-2005; PackageReference: PRSS0004AA-A; Publisher: Altium Limited; PackageDescription: TO, Thru-Hole, Vertical, Heatsink Mounted; 3 In-Line Leads; Pitch 2.54 mm (TO-220); Code_JEITA: SC-46; ComponentLink1Description: Manufacturer Link; ComponentLink1URL: http://sg.renesas.com/fmwk.jsp?cnt=discrete_category_landing.jsp&fp=/products/discrete/; ComponentLink2Description: Datasheet; ComponentLink2URL: http://documentation.renesas.com/eng/products/transistor/rej03g0250_fs70umj06f.pdf; ComponentLink3Description: Packaging Specification; ComponentLink3URL: http://sg.renesas.com/media/products/common_info/package/pdf/transistor/code/prss0004aa_a.pdf
footprint PRSS0004AA-A (TO, Thru-Hole, Vertical, Heatsink Mounted; 3 In-Line Leads; Pitch 2.54 mm)
pins: 1 G, 2 D, 3 S

## FS70VSJ-06F
designator Q?
N-Channel Power MOSFET, High-Speed Switching; Published: 30-Oct-2009; DatasheetVersion: Rev.1.00, Aug-2004; PackageVersion: Sep-2005; PackageReference: PRSS0004AB-A; Publisher: Altium Limited; PackageDescription: 3-Pin Plastic Transistor Outline Package 8.6 x 10.2 mm Body (TO-220S); Code_JEITA: SC-83; ComponentLink1Description: Manufacturer Link; ComponentLink1URL: http://sg.renesas.com/fmwk.jsp?cnt=discrete_category_landing.jsp&fp=/products/discrete/; ComponentLink2Description: Datasheet; ComponentLink2URL: http://documentation.renesas.com/eng/products/transistor/rej03g0265_fs70vsj06f.pdf; ComponentLink3Description: Packaging Specification; ComponentLink3URL: http://sg.renesas.com/media/products/common_info/package/pdf/transistor/code/prss0004ab_a.pdf
footprint PRSS0004AB-A_N (TO, 4-Leads, Body 8.6x10.2mm, Pitch 2.54mm, Lead Span 12.8mm, IPC Medium Density)
footprint PRSS0004AB-A_L (TO, 4-Leads, Body 8.6x10.2mm, Pitch 2.54mm, Lead Span 12.8mm, IPC High Density)
footprint PRSS0004AB-A_M (TO, 4-Leads, Body 8.6x10.2mm, Pitch 2.54mm, Lead Span 12.8mm, IPC Low Density)
pins: 1 G, 3 S, 4 D

## FS100KMJ-03F
designator Q?
N-Channel Power MOSFET, High-Speed Switching; Published: 30-Oct-2009; DatasheetVersion: Rev.1.00, Aug-2004; PackageVersion: Sep-2005; PackageReference: PRSS0003AB-A; Publisher: Altium Limited; PackageDescription: TO, Thru-Hole, Vertical, Heatsink Mounted; 3 In-Line Leads; Pitch 2.54 mm (TO-220FN); ComponentLink1Description: Manufacturer Link; ComponentLink1URL: http://sg.renesas.com/fmwk.jsp?cnt=discrete_category_landing.jsp&fp=/products/discrete/; ComponentLink2Description: Datasheet; ComponentLink2URL: http://documentation.renesas.com/eng/products/transistor/rej03g0253_fs100kmj03f.pdf; ComponentLink3Description: Packaging Specification; ComponentLink3URL: http://sg.renesas.com/media/products/common_info/package/pdf/transistor/code/prss0003ab_a.pdf
footprint PRSS0003AB-A (TO, Thru-Hole, Vertical, Heatsink Mounted; 3 In-Line Leads; Pitch 2.54 mm)
pins: 1 G, 2 D, 3 S

## FS100UMJ-03F
designator Q?
N-Channel Power MOSFET, High-Speed Switching; Published: 30-Oct-2009; DatasheetVersion: Rev.1.00, Aug-2004; PackageVersion: Sep-2005; PackageReference: PRSS0004AA-A; Publisher: Altium Limited; PackageDescription: TO, Thru-Hole, Vertical, Heatsink Mounted; 3 In-Line Leads; Pitch 2.54 mm (TO-220); Code_JEITA: SC-46; ComponentLink1Description: Manufacturer Link; ComponentLink1URL: http://sg.renesas.com/fmwk.jsp?cnt=discrete_category_landing.jsp&fp=/products/discrete/; ComponentLink2Description: Datasheet; ComponentLink2URL: http://documentation.renesas.com/eng/products/transistor/rej03g0249_fs100umj03f.pdf; ComponentLink3Description: Packaging Specification; ComponentLink3URL: http://sg.renesas.com/media/products/common_info/package/pdf/transistor/code/prss0004aa_a.pdf
footprint PRSS0004AA-A (TO, Thru-Hole, Vertical, Heatsink Mounted; 3 In-Line Leads; Pitch 2.54 mm)
pins: 1 G, 2 D, 3 S

## FS100VSJ-03F
designator Q?
N-Channel Power MOSFET, High-Speed Switching; Published: 30-Oct-2009; DatasheetVersion: Rev.1.00, Aug-2004; PackageVersion: Sep-2005; PackageReference: PRSS0004AB-A; Publisher: Altium Limited; PackageDescription: 3-Pin Plastic Transistor Outline Package 8.6 x 10.2 mm Body (TO-220S); Code_JEITA: SC-83; ComponentLink1Description: Manufacturer Link; ComponentLink1URL: http://sg.renesas.com/fmwk.jsp?cnt=discrete_category_landing.jsp&fp=/products/discrete/; ComponentLink2Description: Datasheet; ComponentLink2URL: http://documentation.renesas.com/eng/products/transistor/rej03g0264_fs100vsj03f.pdf; ComponentLink3Description: Packaging Specification; ComponentLink3URL: http://sg.renesas.com/media/products/common_info/package/pdf/transistor/code/prss0004ab_a.pdf
footprint PRSS0004AB-A_N (TO, 4-Leads, Body 8.6x10.2mm, Pitch 2.54mm, Lead Span 12.8mm, IPC Medium Density)
footprint PRSS0004AB-A_L (TO, 4-Leads, Body 8.6x10.2mm, Pitch 2.54mm, Lead Span 12.8mm, IPC High Density)
footprint PRSS0004AB-A_M (TO, 4-Leads, Body 8.6x10.2mm, Pitch 2.54mm, Lead Span 12.8mm, IPC Low Density)
pins: 1 G, 3 S, 4 D

## FX20ASJ-03F
designator Q?
P-Channel Power MOSFET, High-Speed Switching; Published: 30-Oct-2009; DatasheetVersion: Rev.2.00, Dec-2008; PackageVersion: Dec-2008; PackageReference: PRSS0004ZG-A; Publisher: Altium Limited; PackageDescription: 3-Pin Plastic Transistor Outline Package, 6.1 x 6.6 mm Body (MP-3A); Code_JEITA: SC-63; ComponentLink1Description: Manufacturer Link; ComponentLink1URL: http://sg.renesas.com/fmwk.jsp?cnt=discrete_category_landing.jsp&fp=/products/discrete/; ComponentLink2Description: Datasheet; ComponentLink2URL: http://documentation.renesas.com/eng/products/transistor/rej03g0248_fx20asj03f.pdf; ComponentLink3Description: Packaging Specification; ComponentLink3URL: http://sg.renesas.com/media/products/common_info/package/pdf/transistor/code/prss0004zg_a.pdf
footprint PRSS0004ZG-A_N (D-PAK, 4-Leads, Body 6.1x6.6mm, Pitch 2.28mm, Lead Span 9.9mm, IPC Medium Density)
footprint PRSS0004ZG-A_L (D-PAK, 4-Leads, Body 6.1x6.6mm, Pitch 2.28mm, Lead Span 9.9mm, IPC High Density)
footprint PRSS0004ZG-A_M (D-PAK, 4-Leads, Body 6.1x6.6mm, Pitch 2.28mm, Lead Span 9.9mm, IPC Low Density)
pins: 1 G, 3 S, 4 D

## H5N1503P
designator Q?
Silicon N-Channel MOSFET, High Speed Power Switching; Published: 30-Oct-2009; DatasheetVersion: Rev.1.00, Mar-2004; PackageVersion: Sep-2005; PackageReference: PRSS0004ZE-A; Publisher: Altium Limited; PackageDescription: TO, Thru-Hole, Vertical, Heatsink Mounted; 3 In-Line Leads; Pitch 5.45 mm (TO-3P); Code_JEITA: SC-65; ComponentLink1Description: Manufacturer Link; ComponentLink1URL: http://sg.renesas.com/fmwk.jsp?cnt=discrete_category_landing.jsp&fp=/products/discrete/; ComponentLink2Description: Datasheet; ComponentLink2URL: http://documentation.renesas.com/eng/products/transistor/rej03g0186_h5n1503p.pdf; ComponentLink3Description: Packaging Specification; ComponentLink3URL: http://sg.renesas.com/media/products/common_info/package/pdf/transistor/code/prss0004ze_a.pdf
footprint PRSS0004ZE-A (TO, Thru-Hole, Vertical, Heatsink Mounted; 3 In-Line Leads; Pitch 5.45 mm)
pins: 1 G, 2 D, 3 S

## H5N1506P
designator Q?
Silicon N-Channel MOSFET, High Speed Power Switching; Published: 30-Oct-2009; DatasheetVersion: Rev.2.00, Jul-2006; PackageVersion: Sep-2005; PackageReference: PRSS0004ZE-A; Publisher: Altium Limited; PackageDescription: TO, Thru-Hole, Vertical, Heatsink Mounted; 3 In-Line Leads; Pitch 5.45 mm (TO-3P); Code_JEITA: SC-65; ComponentLink1Description: Manufacturer Link; ComponentLink1URL: http://sg.renesas.com/fmwk.jsp?cnt=discrete_category_landing.jsp&fp=/products/discrete/; ComponentLink2Description: Datasheet; ComponentLink2URL: http://documentation.renesas.com/eng/products/transistor/rej03g0389_h5n1506p.pdf; ComponentLink3Description: Packaging Specification; ComponentLink3URL: http://sg.renesas.com/media/products/common_info/package/pdf/transistor/code/prss0004ze_a.pdf
footprint PRSS0004ZE-A (TO, Thru-Hole, Vertical, Heatsink Mounted; 3 In-Line Leads; Pitch 5.45 mm)
pins: 1 G, 2 D, 3 S

## H5N2001LD
designator Q?
Silicon N-Channel MOSFET, High Speed Power Switching; Published: 30-Oct-2009; DatasheetVersion: Rev.6.00, Jul-2006; PackageVersion: Sep-2005; PackageReference: PRSS0004AE-A; Publisher: Altium Limited; PackageDescription: TO, Thru-Hole, Vertical, Heatsink Mounted; 3 In-Line Leads; Pitch 2.54 mm (LDPAK(L)); ComponentLink1Description: Manufacturer Link; ComponentLink1URL: http://sg.renesas.com/fmwk.jsp?cnt=discrete_category_landing.jsp&fp=/products/discrete/; ComponentLink2Description: Datasheet; ComponentLink2URL: http://documentation.renesas.com/eng/products/transistor/rej03g1339_h5n2001ldlslmds.pdf; ComponentLink3Description: Packaging Specification; ComponentLink3URL: http://sg.renesas.com/media/products/common_info/package/pdf/transistor/code/prss0004ae_a.pdf
footprint PRSS0004AE-A (TO, Thru-Hole, Vertical, Heatsink Mounted; 3 In-Line Leads; Pitch 2.54 mm)
pins: 1 G, 2 D, 3 S

## H5N2001LM
designator Q?
Silicon N-Channel MOSFET, High Speed Power Switching; Published: 30-Oct-2009; DatasheetVersion: Rev.6.00, Jul-2006; PackageVersion: Sep-2005; PackageReference: PRSS0004AE-C; Publisher: Altium Limited; PackageDescription: 3-Pin Plastic Transistor Outline Package 8.6 x 10.2 mm Body (LDPAK(S)-(2)); ComponentLink1Description: Manufacturer Link; ComponentLink1URL: http://sg.renesas.com/fmwk.jsp?cnt=discrete_category_landing.jsp&fp=/products/discrete/; ComponentLink2Description: Datasheet; ComponentLink2URL: http://documentation.renesas.com/eng/products/transistor/rej03g1339_h5n2001ldlslmds.pdf; ComponentLink3Description: Packaging Specification; ComponentLink3URL: http://sg.renesas.com/media/products/common_info/package/pdf/transistor/code/prss0004ae_c.pdf
footprint PRSS0004AE-C_N (D2-PAK, 4-Leads, Body 8.6x10.2mm, Pitch 2.54mm, Lead Span 15mm, IPC Medium Density)
footprint PRSS0004AE-C_L (D2-PAK, 4-Leads, Body 8.6x10.2mm, Pitch 2.54mm, Lead Span 15mm, IPC High Density)
footprint PRSS0004AE-C_M (D2-PAK, 4-Leads, Body 8.6x10.2mm, Pitch 2.54mm, Lead Span 15mm, IPC Low Density)
pins: 1 G, 3 S, 4 D

## H5N2001LS
designator Q?
Silicon N-Channel MOSFET, High Speed Power Switching; Published: 30-Oct-2009; DatasheetVersion: Rev.6.00, Jul-2006; PackageVersion: Sep-2005; PackageReference: PRSS0004AE-B; Publisher: Altium Limited; PackageDescription: 3-Pin Plastic Transistor Outline Package 8.6 x 10.2 mm Body (LDPAK(S)-(1)); Code_JEITA: SC-83; ComponentLink1Description: Manufacturer Link; ComponentLink1URL: http://sg.renesas.com/fmwk.jsp?cnt=discrete_category_landing.jsp&fp=/products/discrete/; ComponentLink2Description: Datasheet; ComponentLink2URL: http://documentation.renesas.com/eng/products/transistor/rej03g1339_h5n2001ldlslmds.pdf; ComponentLink3Description: Packaging Specification; ComponentLink3URL: http://sg.renesas.com/media/products/common_info/package/pdf/transistor/code/prss0004ae_b.pdf
footprint PRSS0004AE-B_N (TO, 4-Leads, Body 8.6x10.2mm, Pitch 2.54mm, Lead Span 12.8mm, IPC Medium Density)
footprint PRSS0004AE-B_L (TO, 4-Leads, Body 8.6x10.2mm, Pitch 2.54mm, Lead Span 12.8mm, IPC High Density)
footprint PRSS0004AE-B_M (TO, 4-Leads, Body 8.6x10.2mm, Pitch 2.54mm, Lead Span 12.8mm, IPC Low Density)
pins: 1 G, 3 S, 4 D

## H5N2003P
designator Q?
Silicon N-Channel MOSFET, High Speed Power Switching; Published: 30-Oct-2009; DatasheetVersion: Rev.1.00, Apr-2004; PackageVersion: Sep-2005; PackageReference: PRSS0004ZE-A; Publisher: Altium Limited; PackageDescription: TO, Thru-Hole, Vertical, Heatsink Mounted; 3 In-Line Leads; Pitch 5.45 mm (TO-3P); Code_JEITA: SC-65; ComponentLink1Description: Manufacturer Link; ComponentLink1URL: http://sg.renesas.com/fmwk.jsp?cnt=discrete_category_landing.jsp&fp=/products/discrete/; ComponentLink2Description: Datasheet; ComponentLink2URL: http://documentation.renesas.com/eng/products/transistor/rej03g0235_h5n2003p.pdf; ComponentLink3Description: Packaging Specification; ComponentLink3URL: http://sg.renesas.com/media/products/common_info/package/pdf/transistor/code/prss0004ze_a.pdf
footprint PRSS0004ZE-A (TO, Thru-Hole, Vertical, Heatsink Mounted; 3 In-Line Leads; Pitch 5.45 mm)
pins: 1 G, 2 D, 3 S

## H5N2004DL
designator Q?
Silicon N-Channel MOSFET, High Speed Power Switching; Published: 30-Oct-2009; DatasheetVersion: Rev.2.00, Sep-2005; PackageVersion: Sep-2005; PackageReference: PRSS0004ZD-B; Publisher: Altium Limited; PackageDescription: TO, Thru-Hole, Vertical, Heatsink Mounted; 3 In-Line Leads (DPAK(L)-(2)); ComponentLink1Description: Manufacturer Link; ComponentLink1URL: http://sg.renesas.com/fmwk.jsp?cnt=discrete_category_landing.jsp&fp=/products/discrete/; ComponentLink2Description: Datasheet; ComponentLink2URL: http://documentation.renesas.com/eng/products/transistor/rej03g1103_h5n2004dldsds.pdf; ComponentLink3Description: Packaging Specification; ComponentLink3URL: http://sg.renesas.com/media/products/common_info/package/pdf/transistor/code/prss0004zd_b.pdf
footprint PRSS0004ZD-B (TO, Thru-Hole, Vertical, Heatsink Mounted; 3 In-Line Leads; Pitch 2.28 mm)
pins: 1 G, 2 D, 3 S

## H5N2004DS
designator Q?
Silicon N-Channel MOSFET, High Speed Power Switching; Published: 30-Oct-2009; DatasheetVersion: Rev.2.00, Sep-2005; PackageVersion: Jan-2006; PackageReference: PRSS0004ZD-C; Publisher: Altium Limited; PackageDescription: 3-Pin Plastic Transistor Outline Package, 5.5 x 6.5 mm Body (DPAK(S)); Code_JEITA: SC-63; ComponentLink1Description: Manufacturer Link; ComponentLink1URL: http://sg.renesas.com/fmwk.jsp?cnt=discrete_category_landing.jsp&fp=/products/discrete/; ComponentLink2Description: Datasheet; ComponentLink2URL: http://documentation.renesas.com/eng/products/transistor/rej03g1103_h5n2004dldsds.pdf; ComponentLink3Description: Packaging Specification; ComponentLink3URL: http://sg.renesas.com/media/products/common_info/package/pdf/transistor/code/prss0004zd_c.pdf
footprint PRSS0004ZD-C_N (D-PAK, 4-Leads, Body 5.5x6.5mm, Pitch 2.3mm, Lead Span 9.9mm, IPC Medium Density)
footprint PRSS0004ZD-C_L (D-PAK, 4-Leads, Body 5.5x6.5mm, Pitch 2.3mm, Lead Span 9.9mm, IPC High Density)
footprint PRSS0004ZD-C_M (D-PAK, 4-Leads, Body 5.5x6.5mm, Pitch 2.3mm, Lead Span 9.9mm, IPC Low Density)
pins: 1 G, 3 S, 4 D

## H5N2005DL
designator Q?
Silicon N-Channel MOSFET, High Speed Power Switching; Published: 30-Oct-2009; DatasheetVersion: Rev.3.00, Mar-2009; PackageVersion: Sep-2005; PackageReference: PRSS0004ZD-B; Publisher: Altium Limited; PackageDescription: TO, Thru-Hole, Vertical, Heatsink Mounted; 3 In-Line Leads (DPAK(L)-(2)); ComponentLink1Description: Manufacturer Link; ComponentLink1URL: http://sg.renesas.com/fmwk.jsp?cnt=discrete_category_landing.jsp&fp=/products/discrete/; ComponentLink2Description: Datasheet; ComponentLink2URL: http://documentation.renesas.com/eng/products/transistor/rej03g1104_h5n2005dldsds.pdf; ComponentLink3Description: Packaging Specification; ComponentLink3URL: http://sg.renesas.com/media/products/common_info/package/pdf/transistor/code/prss0004zd_b.pdf
footprint PRSS0004ZD-B (TO, Thru-Hole, Vertical, Heatsink Mounted; 3 In-Line Leads; Pitch 2.28 mm)
pins: 1 G, 2 D, 3 S

## H5N2005DS
designator Q?
Silicon N-Channel MOSFET, High Speed Power Switching; Published: 30-Oct-2009; DatasheetVersion: Rev.3.00, Mar-2009; PackageVersion: Jan-2006; PackageReference: PRSS0004ZD-C; Publisher: Altium Limited; PackageDescription: 3-Pin Plastic Transistor Outline Package, 5.5 x 6.5 mm Body (DPAK(S)); Code_JEITA: SC-63; ComponentLink1Description: Manufacturer Link; ComponentLink1URL: http://sg.renesas.com/fmwk.jsp?cnt=discrete_category_landing.jsp&fp=/products/discrete/; ComponentLink2Description: Datasheet; ComponentLink2URL: http://documentation.renesas.com/eng/products/transistor/rej03g1104_h5n2005dldsds.pdf; ComponentLink3Description: Packaging Specification; ComponentLink3URL: http://sg.renesas.com/media/products/common_info/package/pdf/transistor/code/prss0004zd_c.pdf
footprint PRSS0004ZD-C_N (D-PAK, 4-Leads, Body 5.5x6.5mm, Pitch 2.3mm, Lead Span 9.9mm, IPC Medium Density)
footprint PRSS0004ZD-C_L (D-PAK, 4-Leads, Body 5.5x6.5mm, Pitch 2.3mm, Lead Span 9.9mm, IPC High Density)
footprint PRSS0004ZD-C_M (D-PAK, 4-Leads, Body 5.5x6.5mm, Pitch 2.3mm, Lead Span 9.9mm, IPC Low Density)
pins: 1 G, 3 S, 4 D